# Altium schematic symbol library Board.SchLib: 9 symbols
Pins are listed as number, name and electrical type; pins without a type are passive.

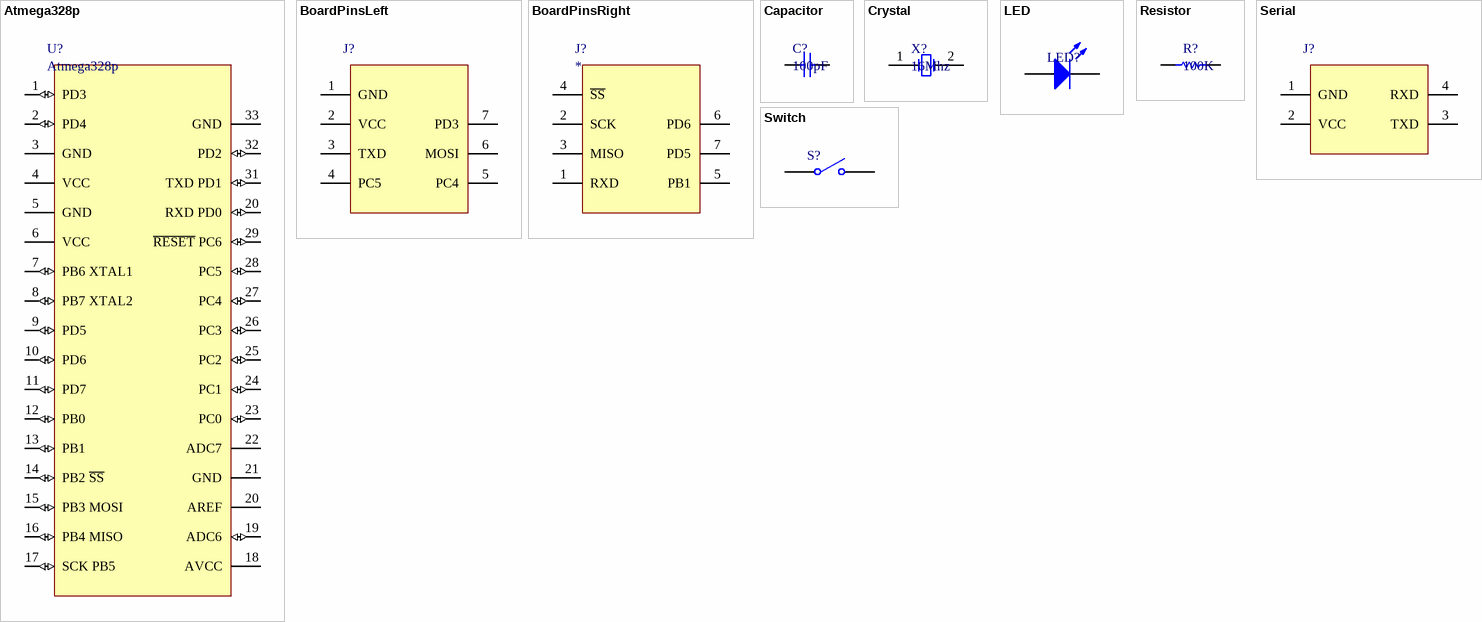
[diagram p0: symbols Atmega328p to Switch]

## Atmega328p
designator U?
footprint Atmega328p
pins: 1 PD3 (io), 2 PD4 (io), 3 GND, 4 VCC, 5 GND, 6 VCC, 7 PB6 XTAL1 (io), 8 PB7 XTAL2 (io), 9 PD5 (io), 10 PD6 (io), 11 PD7 (io), 12 PB0 (io), 13 PB1 (io), 14 PB2 ~{SS} (io), 15 PB3 MOSI (io), 16 PB4 MISO (io), 17 SCK PB5 (io), 18 AVCC, 19 ADC6 (io), 20 AREF, 20 RXD PD0 (io), 21 GND, 22 ADC7, 23 PC0 (io), 24 PC1 (io), 25 PC2 (io), 26 PC3 (io), 27 PC4 (io), 28 PC5 (io), 29 ~{RESET} PC6 (io), 31 TXD PD1 (io), 32 PD2 (io), 33 GND

## BoardPinsLeft
designator J?
footprint Connector7G
pins: 1 GND, 2 VCC, 3 TXD, 4 PC5, 5 PC4, 6 MOSI, 7 PD3

## BoardPinsRight
designator J?
footprint Connector7
pins: 1 RXD, 2 SCK, 3 MISO, 4 ~{SS}, 5 PB1, 6 PD6, 7 PD5

## Capacitor
designator C?, comment 100pF
footprint C0201
footprint C0402
pins: 1, 2

## Crystal
designator X?, comment 16Mhz
footprint YXC RE01
footprint CSTCE16M0V53-RO
pins: 1 OSC1, 2 OSC2

## LED
designator LED?
footprint LED0402
pins: 1 A, 2 K

## Resistor
designator R?, comment 100K
footprint R0402
footprint R0201
pins: 1, 2

## Serial
designator J?
footprint Connector4G
pins: 1 GND, 2 VCC, 3 TXD, 4 RXD

## Switch
designator S?
pins: 1 COMMON, 2 NO